# Altium footprint library Components - 06.07.24 - 21.13.PcbLib: 1 footprints
Each footprint in its own frame and in the unit in brackets; x right, y up, seen from the top. Pads: shape width x height; smd on the part's side, far side on the other; paste and mask are expansions set on the pad; w line width, h text height; cw(c..) or ccw(c..) is an arc to the next point about the centre after c.
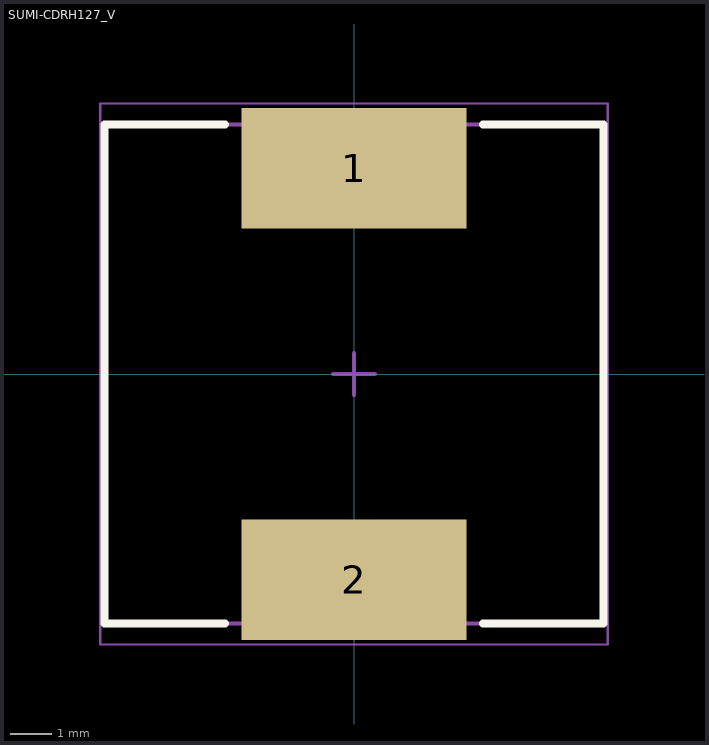
[diagram p0: the footprint, top view; thin cyan lines are the x and y axes]

## SUMI-CDRH127_V [mm] "SMD, 2-Leads, Body 12x12mm"
height 8
pads (2):
  rect 5.4x2.9 smd: 1(0,4.95) 2(0,-4.95)
Top Overlay:
  lines w0.2: -3.1,-6 -6,-6 -6,6 -3.1,6 ; 3.1,-6 6,-6 6,6 3.1,6
Mechanical 13:
  lines w0.1: -6,-6 -6,6 6,6 6,-6 -6,-6
Mechanical 15:
  lines w0.05: -6.1,-6.5 6.1,-6.5 6.1,6.5 -6.1,6.5 -6.1,-6.5
  lines w0.1: -0.5,0 0.5,0 ; 0,-0.5 0,0.5
3D body "User Library-CDRH127.STEP": height 8.4, standoff 0, extent -6,-6.1 6,6.1